# Altium schematic symbol library LED_DRIVER(3-5.5V, 175mAx4, PWM, 8-SOIC).SchLib: 1 symbol
Pins are listed as number, name and electrical type; pins without a type are passive.

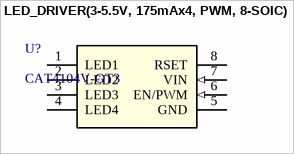
[diagram p0: symbol LED_DRIVER(3-5.5V, 175mAx4, PWM, 8-SOIC)]

## LED_DRIVER(3-5.5V, 175mAx4, PWM, 8-SOIC)
designator U?, comment CAT4104V-GT3
LED_DRIVER(3-5.5V, 175mAx4, PWM, 8-SOIC); Manufacturer: onsemi; Manufacturer_PN: CAT4104V-GT3; Package: SOIC-8; Datasheet: https://www.onsemi.com/pdf/datasheet/cat4104-d.pdf; Digikey_Link: https://www.digikey.it/en/products/detail/onsemi/CAT4104V-GT3/2271397
footprint SOIC8_ONS
pins: 1 LED1, 2 LED2, 3 LED3, 4 LED4, 5 GND (power), 6 EN/PWM (in), 7 VIN (in), 8 RSET